# Altium footprint library DM3ATSFPEJM540.PcbLib: 1 footprints
Each footprint in its own frame and in the unit in brackets; x right, y up, seen from the top. Pads: shape width x height; smd on the part's side, far side on the other; paste and mask are expansions set on the pad; w line width, h text height; cw(c..) or ccw(c..) is an arc to the next point about the centre after c.
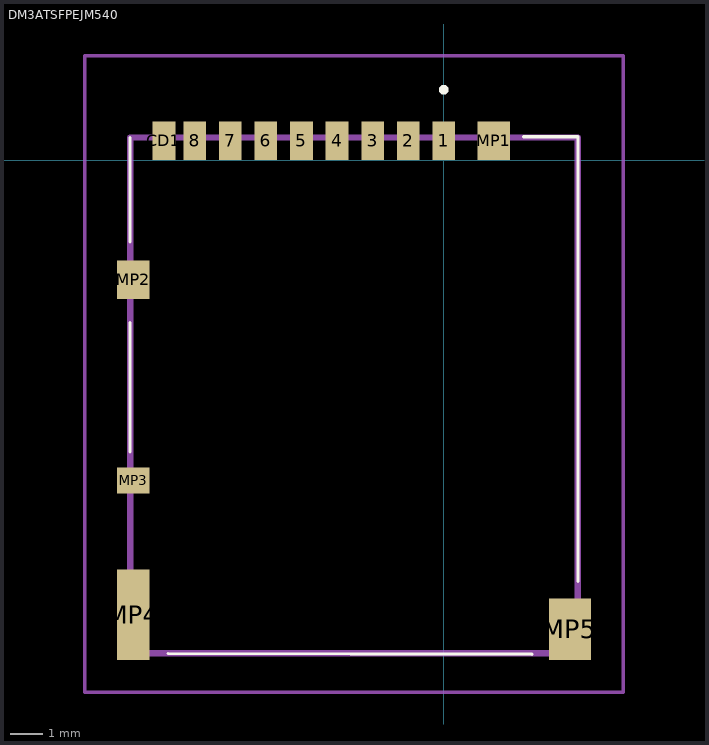
[diagram p0: the footprint, top view; thin cyan lines are the x and y axes]

## DM3ATSFPEJM540 [mm]
pads (14):
  rect 0.7x1.2 smd: 1(0,0.6) 2(-1.1,0.6) 3(-2.2,0.6) 4(-3.3,0.6) 5(-4.4,0.6) 6(-5.5,0.6) 7(-6.6,0.6) 8(-7.7,0.6) CD1(-8.65,0.6)
  rect 1x1.2 smd: MP1(1.55,0.6) MP2(-9.6,-3.7)
  rect 1x0.8 smd: MP3(-9.6,-9.9)
  rect 1x2.8 smd: MP4(-9.6,-14.05)
  rect 1.3x1.9 smd: MP5(3.9,-14.5)
Top Overlay:
  lines w0.1: -9.7,-9.025 -9.7,-5.025 ; -9.7,-2.525 -9.7,0.7 ; -8.525,-15.25 2.725,-15.275 ; 2.475,0.725 4.15,0.725 4.15,-13.025
  lines w0.2: 0,2.125 cw(c0,2.175) 0,2.225 ; 0,2.125 0,2.125 ; 0,2.125 ccw(c0,2.175) 0,2.225 ; 0,2.125 cw(c0,2.175) 0,2.225 ; 0,2.225 0,2.225 ; 0,2.225 0,2.225
Mechanical 15:
  lines w0.2: -9.7,-15.25 4.15,-15.25 4.15,0.7 -9.7,0.7 -9.7,-15.25
Mechanical 20:
  lines w0.1: -11.1,-16.45 5.55,-16.45 5.55,3.225 -11.1,3.225 -11.1,-16.45